# Altium footprint library PcbLib1.PcbLib: 3 footprints
Each footprint in its own frame and in the unit in brackets; x right, y up, seen from the top. Pads: shape width x height; smd on the part's side, far side on the other; paste and mask are expansions set on the pad; w line width, h text height; cw(c..) or ccw(c..) is an arc to the next point about the centre after c.
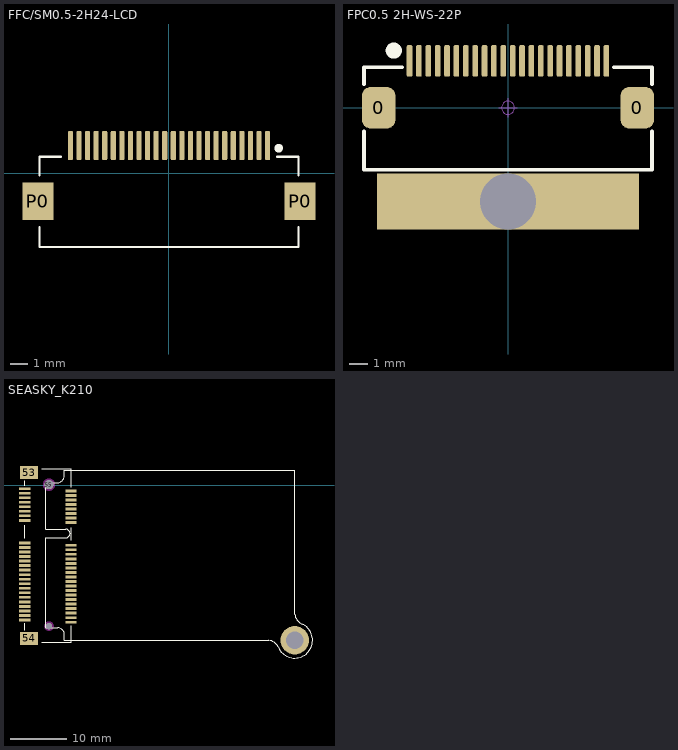
[diagram p0: the footprints below, top view; thin cyan lines are the x and y axes]

## FFC/SM0.5-2H24-LCD [mm] "Connector; FH12 Series; 24 Position; 0.5mm Spaced Bottom Contact"
height 2
pads (26):
  rrect50% 0.3x1.7 smd: 1(-5.75,1.625) 2(-5.25,1.625) 3(-4.75,1.625) 4(-4.25,1.625) 5(-3.75,1.625) 6(-3.25,1.625) 7(-2.75,1.625) 8(-2.25,1.625) 9(-1.75,1.625) 10(-1.25,1.625) 11(-0.75,1.625) 12(-0.25,1.625) 13(0.25,1.625) 14(0.75,1.625) 15(1.25,1.625) 16(1.75,1.625) 17(2.25,1.625) 18(2.75,1.625) 19(3.25,1.625) 20(3.75,1.625) 21(4.25,1.625) 22(4.75,1.625) 23(5.25,1.625) 24(5.75,1.625)
  rect 1.8x2.2 smd: P0(-7.65,-1.625) P0(7.65,-1.625)
Top Overlay:
  circle w0.25: c6.401,1.473 r0.125
  lines w0.127: -7.55,-3.125 -7.55,-4.293 7.55,-4.293 7.55,-3.125 ; -7.55,-0.125 -7.55,0.975 -6.3,0.975 ; 6.3,0.975 7.55,0.975 7.55,-0.125
3D body "User Library-FH12-24S-0_5SH.STEP": height 2.04, standoff -0.06, extent -8.05,-4.292 8.05,2.108

## FPC0.5 2H-WS-22P [mm] "长：15.2mm，宽：5.2mm，高：2mm 淘宝ID:黄晶宝石   店铺网址:https://shop463601444.taobao.com"
pads (25):
  rrect50% 1.8x2.2 smd: 0(-6.9,0) 0(6.9,0)
  rrect50% 0.3x1.681 smd: 1(5.25,2.497) 2(4.75,2.497) 3(4.25,2.497) 4(3.75,2.497) 5(3.25,2.497) 6(2.75,2.497) 7(2.25,2.497) 8(1.75,2.497) 9(1.25,2.497) 10(0.75,2.497) 11(0.25,2.497) 12(-0.25,2.497) 13(-0.75,2.497) 14(-1.25,2.497) 15(-1.75,2.497) 16(-2.25,2.497) 17(-2.75,2.497) 18(-3.25,2.497) 19(-3.75,2.497) 20(-4.25,2.497) 21(-4.75,2.497) 22(-5.25,2.497)
  rect 14x3 hole 3 square: ""(0,-5.004)
Top Overlay:
  circle w0.5: c-6.094,3.048 r0.18
  lines w0.2: -7.675,-1.27 -7.675,-3.302 7.675,-3.302 7.675,-1.27 ; -7.675,1.27 -7.675,2.159 -5.643,2.159 ; 5.643,2.159 7.675,2.159 7.675,1.27
Mechanical 15:
  circle w0.05: c0,0 r0.35
  lines w0.05: -0.5,0 0.5,0 ; 0,-0.5 0,0.5
3D body "FPC0.5 2H-S-W-22P.STEP": height 2, standoff -0.01, extent -7.6,-3.15 7.6,2.85
3D body "2.0 LCD TFT Module.STEP": height -0.52, standoff -3.06, extent -18.758,-17.264 18.758,34.552

## SEASKY_K210 [mm]
pads (57):
  rect 2x0.5 smd: 1(5.606,-0.643) 2(13.806,-1.043) 3(5.606,-1.443) 4(13.806,-1.843) 5(5.606,-2.243) 6(13.806,-2.643) 7(5.606,-3.043) 8(13.806,-3.443) 9(5.606,-3.843) 10(13.806,-4.243) 11(5.606,-4.643) 12(13.806,-5.043) 13(5.606,-5.443) 14(13.806,-5.843) 15(5.606,-6.243) 16(13.806,-6.643) 17(5.606,-10.243) 18(13.806,-10.643) 19(5.606,-11.043) 20(13.806,-11.443) 21(5.606,-11.843) 22(13.806,-12.243) 23(5.606,-12.643) 24(13.806,-13.043) 25(5.606,-13.443) 26(13.806,-13.843) 27(5.606,-14.243) 28(13.806,-14.643) 29(5.606,-15.043) 30(13.806,-15.443) 31(5.606,-15.843) 32(13.806,-16.243) 33(5.606,-16.643) 34(13.806,-17.043) 35(5.606,-17.443) 36(13.806,-17.843) 37(5.606,-18.243) 38(13.806,-18.643) 39(5.606,-19.043) 40(13.806,-19.443) 41(5.606,-19.843) 42(13.806,-20.243) 43(5.606,-20.643) 44(13.806,-21.043) 45(5.606,-21.443) 46(13.806,-21.843) 47(5.606,-22.243) 48(13.806,-22.643) 49(5.606,-23.043) 50(13.806,-23.443) 51(5.606,-23.843) 52(13.806,-24.243)
  rect 3.2x2.3 smd: 53(6.406,2.207) 54(6.406,-27.093)
  round 1.6 hole 1.6 unplated: 55(9.906,0.057)
  round 1.1 hole 1.1 unplated: 56(9.906,-24.943)
  round 5 hole 3.175: ""(53.34,-27.432)
Top Overlay:
  lines w0.127: 5.606,-25.643 5.606,-24.443 ; 5.606,-9.443 5.606,-7.143 ; 5.606,-0.118 5.606,0.722 ; 8.606,-27.743 13.806,-27.743 13.806,-24.843 ; 8.606,2.857 13.806,2.857 13.806,-0.433 ; 13.806,-9.722 13.806,-7.569
  lines w0.152: 11.43,-25.242 9.347,-25.242 9.347,-9.322 12.878,-9.322 ccw(c12.878,-8.56) 12.878,-7.798 9.347,-7.798 9.347,0.432 11.43,0.432 ccw(c11.43,1.6) 12.598,1.6 12.598,2.616 13.614,2.616 ; 11.455,-25.248 cw(c11.455,-26.416) 12.624,-26.416 12.624,-27.432 13.608,-27.432 ; 13.614,-27.432 48.768,-27.432 cw(c48.489,-29.566) 50.488,-28.771 ; 13.64,2.616 53.34,2.616 53.34,-22.86 ccw(c55.474,-22.581) 54.679,-24.58 ; 50.48,-28.75 ccw(c53.34,-27.432) 54.687,-24.585
Keep-Out Layer:
  drawing of 2 lines, arcs and shapes, not listed
3D body "1759547-1.stp": height 7.01, standoff -0.64, extent 5.305,-27.407 14.405,2.493
3D body "K210_Board.step": height 9.38, standoff 2.64, extent 9.398,-30.606 56.54,2.591
3D body: height 4.57, standoff 0, extent 50.8,-29.969 55.88,-24.895
3D body: height 6.1, standoff -1.02, extent 51.828,-28.953 54.864,-25.911
3D body: height 7.37, standoff 6.1, extent 50.8,-29.969 55.88,-24.895